# EAGLE library part MAX732 (library tide_clock)
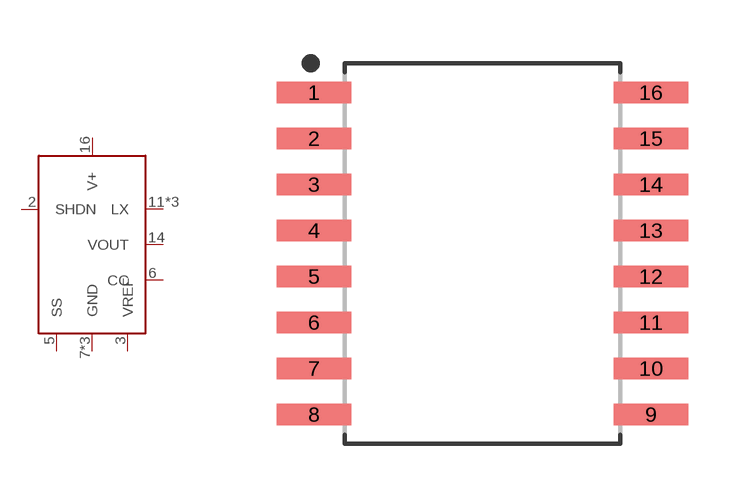
[diagram p10: symbol with the pads of SOIC127P1032X265-16; footprint SOIC127P1032X265-16]

Designator prefix U

## MAX732  [SOIC127P1032X265-16]
2  SHDN  pas
3  VREF  pas
5  SS  pas
6  CC  pas
7  GND  pas
8  GND  pas
9  GND  pas
11  LX  pas
12  LX  pas
13  LX  pas
14  VOUT  pas
16  V+  pas

## Footprint SOIC127P1032X265-16 (pad centres in mm)
16-SOIC, 1.27 mm pitch, 10.32 mm span, 10.29 X 7.50 X 2.65 mm body 16-pin SOIC package with 1.27 mm pitch, 10.32 mm span with body size 10.29 X 7.50 X 2.65 mm
smd 2.052 x 0.602: 1 -4.654,4.445; 2 -4.654,3.175; 3 -4.654,1.905; 4 -4.654,0.635; 5 -4.654,-0.635; 6 -4.654,-1.905; 7 -4.654,-3.175; 8 -4.654,-4.445; 9 4.654,-4.445; 10 4.654,-3.175; 11 4.654,-1.905; 12 4.654,-0.635; 13 4.654,0.635; 14 4.654,1.905; 15 4.654,3.175; 16 4.654,4.445